# EAGLE library part CD4047NEW (library CD4047NEW)
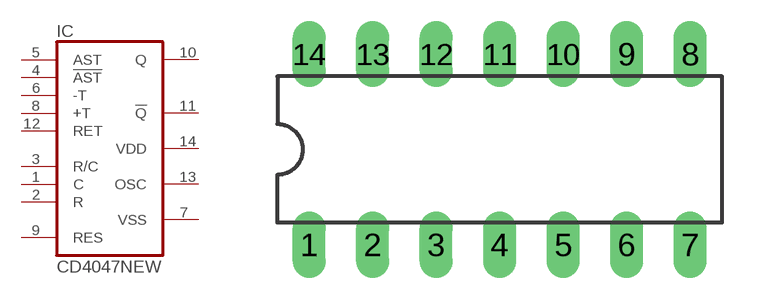
[diagram p0: symbol with the pads of DIL14; footprint DIL14]

Designator prefix IC

## CD4047NEW  [DIL14]
1  C  in
2  R  in
3  R/C  in
4  !AST  in
5  AST  in
6  -T  in
7  VSS  pwr
8  +T  in
9  RES  in
10  Q  out
11  !Q  out
12  RET  in
13  OSC  out
14  VDD  pwr

## Footprint DIL14 (pad centres in mm)
Dual In Line Package
drill 0.813 long: 1 -7.62,-3.81; 2 -5.08,-3.81; 3 -2.54,-3.81; 4 0,-3.81; 5 2.54,-3.81; 6 5.08,-3.81; 7 7.62,-3.81; 8 7.62,3.81; 9 5.08,3.81; 10 2.54,3.81; 11 0,3.81; 12 -2.54,3.81; 13 -5.08,3.81; 14 -7.62,3.81